# Altium footprint library Switch.PcbLib: 11 footprints
Each footprint in its own frame and in the unit in brackets; x right, y up, seen from the top. Pads: shape width x height; smd on the part's side, far side on the other; paste and mask are expansions set on the pad; w line width, h text height; cw(c..) or ccw(c..) is an arc to the next point about the centre after c.
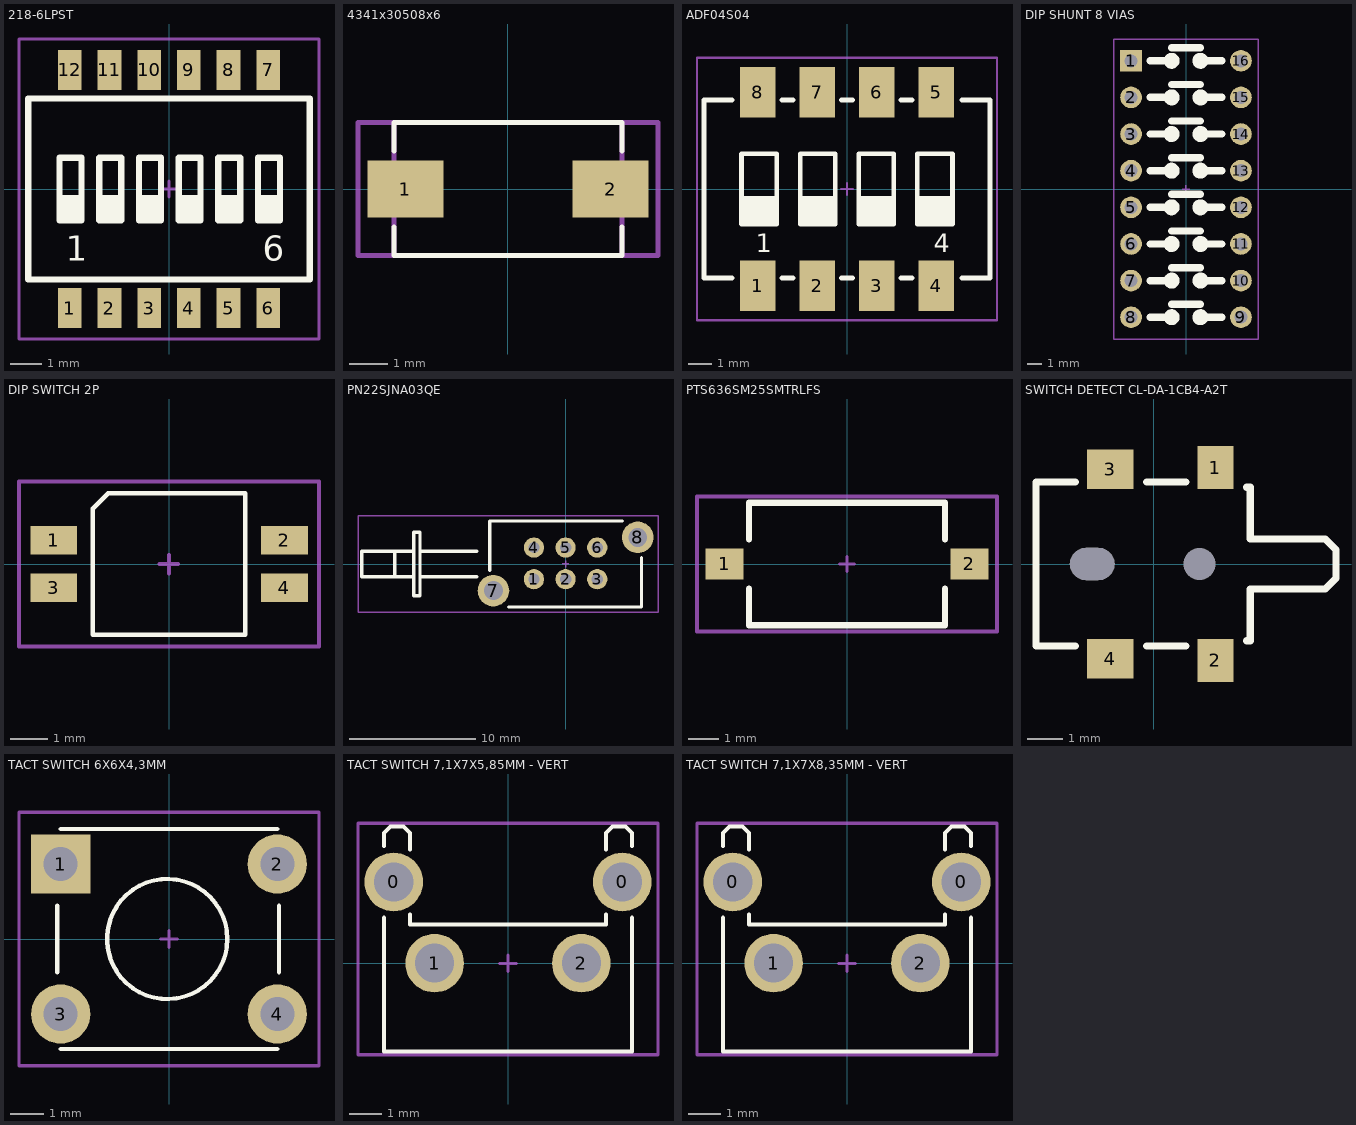
[diagram p0: the footprints below, top view; thin cyan lines are the x and y axes]

## 218-6LPST [mm]
pads (12):
  rect 0.76x1.27 smd: 1(-3.175,-3.81) 2(-1.905,-3.81) 3(-0.635,-3.81) 4(0.635,-3.81) 5(1.905,-3.81) 6(3.175,-3.81) 7(3.175,3.81) 8(1.905,3.81) 9(0.635,3.81) 10(-0.635,3.81) 11(-1.905,3.81) 12(-3.175,3.81)
Top Overlay:
  rectangle: -3.5,-1 -2.8,-0.2
  rectangle: -2.23,-1 -1.53,-0.2
  rectangle: -0.96,-1 -0.26,-0.2
  rectangle: 0.31,-1 1.01,-0.2
  rectangle: 1.58,-1 2.28,-0.2
  rectangle: 2.85,-1 3.55,-0.2
  lines w0.2: -4.5,-2.9 4.5,-2.9 4.5,2.9 -4.5,2.9 -4.5,-2.9 ; -3.5,-1 -2.8,-1 -2.8,1 -3.5,1 -3.5,-1 ; -2.23,-1 -2.23,1 -1.53,1 -1.53,-1 -2.23,-1 ; -0.96,-1 -0.96,1 -0.26,1 -0.26,-1 -0.96,-1 ; 0.31,-1 0.31,1 1.01,1 1.01,-1 0.31,-1 ; 1.58,-1 1.58,1 2.28,1 2.28,-1 1.58,-1 ; 2.85,-1 2.85,1 3.55,1 3.55,-1 2.85,-1
  text "1" at -3.3,-2.3 h0.8
  text "6" at 3,-2.3 h0.8
Mechanical 15:
  lines w0.1: -0.25,0 0.25,0 ; 0,-0.25 0,0.25 ; -4.8,-4.8 4.8,-4.8 4.8,4.8 -4.8,4.8 -4.8,-4.8
3D body "218-6polesLP.STEP": height 2.62, standoff 0, extent -4.395,-4.22 4.395,4.22

## 4341x30508x6 [mm]
height 1.75
pads (2):
  rect 2x1.5 smd: 1(-2.7,0) 2(2.7,0)
Top Overlay:
  lines w0.127: -3,-1 -3,-1.75 ; 3,1 3,1.75 ; -3,-1.75 3,-1.75 3,-1 ; -3,-1.75 -3,-1.75 ; -3,1 -3,1.75 3,1.75 ; -3,1 -3,1 ; 3,-1 3,-1 ; 3,1.75 3,1.75
Mechanical 13:
  lines w0.127: -3,-1.75 3,-1.75 3,1.75 -3,1.75 -3,-1.75
Mechanical 15:
  lines w0.127: -3.95,-1.75 3.95,-1.75 3.95,1.75 -3.95,1.75 -3.95,-1.75
3D body "4341x30508x6.stp": height 5, standoff 0, extent -3.599,-1.75 3.6,1.75

## ADF04S04 [mm]
pads (8):
  rect 1.52x2.16 smd: 1(-3.81,-4.13) 2(-1.27,-4.13) 3(1.27,-4.13) 4(3.81,-4.13) 5(3.81,4.13) 6(1.27,4.13) 7(-1.27,4.13) 8(-3.81,4.13)
Top Overlay:
  rectangle: -4.5,-1.5 -3,-0.3
  rectangle: -2,-1.5 -0.5,-0.3
  rectangle: 3,-1.5 4.5,-0.3
  rectangle: 0.5,-1.5 2,-0.3
  lines w0.2: -4.9,-3.8 -6.1,-3.8 -6.1,3.8 -4.9,3.8 ; -2.79,-3.8 -2.29,-3.8 ; -2.79,3.8 -2.29,3.8 ; -0.25,-3.8 0.25,-3.8 ; -0.25,3.8 0.25,3.8 ; 2.29,-3.8 2.79,-3.8 ; 2.29,3.8 2.79,3.8 ; 4.9,-3.8 6.1,-3.8 6.1,3.8 4.9,3.8 ; -4.5,-1.5 -3,-1.5 -3,1.5 -4.5,1.5 -4.5,-1.5 ; -2,-1.5 -2,1.5 -0.5,1.5 -0.5,-1.5 -2,-1.5 ; 0.5,-1.5 0.5,1.5 2,1.5 2,-1.5 0.5,-1.5 ; 3,-1.5 4.5,-1.5 4.5,1.5 3,1.5 3,-1.5
  text "4" at 3.7,-2.7 h0.8
  text "1" at -3.9,-2.7 h0.8
Mechanical 15:
  lines w0.1: -0.25,0 0.25,0 ; 0,-0.25 0,0.25 ; -6.4,-5.6 6.4,-5.6 6.4,5.6 -6.4,5.6 -6.4,-5.6
3D body "ADF04S04.STEP": height 4.42, standoff -0.02, extent -6.07,-4.659 6.07,4.659

## DIP SHUNT 8 VIAS [mm] "DIP SHUNT 8 VIAS"
pads (16):
  rect 1.5x1.5 hole 0.9: 1(-3.81,8.89)
  round 1.5 hole 0.9: 2(-3.81,6.35) 3(-3.81,3.81) 4(-3.81,1.27) 5(-3.81,-1.27) 6(-3.81,-3.81) 7(-3.81,-6.35) 8(-3.81,-8.89) 9(3.81,-8.89) 10(3.81,-6.35) 11(3.81,-3.81) 12(3.81,-1.27) 13(3.81,1.27) 14(3.81,3.81) 15(3.81,6.35) 16(3.81,8.89)
Top Overlay:
  circle w0.508: c1,-8.89 r0.3
  circle w0.508: c-1,-8.89 r0.3
  circle w0.508: c1,-6.35 r0.3
  circle w0.508: c-1,-6.35 r0.3
  circle w0.508: c1,-3.81 r0.3
  circle w0.508: c-1,-3.81 r0.3
  circle w0.508: c1,-1.27 r0.3
  circle w0.508: c-1,-1.27 r0.3
  circle w0.508: c1,1.27 r0.3
  circle w0.508: c-1,1.27 r0.3
  circle w0.508: c1,3.81 r0.3
  circle w0.508: c-1,3.81 r0.3
  circle w0.508: c1,6.35 r0.3
  circle w0.508: c-1,6.35 r0.3
  circle w0.508: c1,8.89 r0.3
  circle w0.508: c-1,8.89 r0.3
  lines w0.508: -2.5,-8.89 -1,-8.89 ; -2.5,-6.35 -1,-6.35 ; -2.5,-3.81 -1,-3.81 ; -2.5,-1.27 -1,-1.27 ; -2.5,1.27 -1,1.27 ; -2.5,3.81 -1,3.81 ; -2.5,6.35 -1,6.35 ; -2.5,8.89 -1,8.89 ; -1,-7.99 1,-7.99 ; -1,-5.45 1,-5.45 ; -1,-2.91 1,-2.91 ; -1,-0.37 1,-0.37 ; -1,2.17 1,2.17 ; -1,4.71 1,4.71 ; -1,7.25 1,7.25 ; -1,9.79 1,9.79 ; 1,-8.89 2.5,-8.89 ; 1,-6.35 2.5,-6.35 ; 1,-3.81 2.5,-3.81 ; 1,-1.27 2.5,-1.27 ; 1,1.27 2.5,1.27 ; 1,3.81 2.5,3.81 ; 1,6.35 2.5,6.35 ; 1,8.89 2.5,8.89
Mechanical 15:
  lines w0.1: -0.25,0 0.25,0 ; 0,-0.25 0,0.25 ; -5,-10.4 -5,10.4 5,10.4 5,-10.4 -5,-10.4
3D body "DIP SHUNT 8 VIAS.STEP": height 2.2, standoff -3.6, extent -3.935,-10.16 3.935,10.16

## DIP SWITCH 2P [mm]
height 1.45
pads (4):
  rect 1.25x0.76 smd: 1(-3.075,0.635) 2(3.075,0.635) 3(-3.075,-0.635) 4(3.075,-0.635)
Top Overlay:
  lines w0.127: -2.032,-1.885 2.032,-1.885 2.032,1.885 -1.625,1.885 -2.032,1.478 -2.032,-1.885
Mechanical 15:
  lines w0.1: -0.25,0 0.25,0 ; 0,-0.25 0,0.25 ; -4,-2.2 -4,2.2 4,2.2 4,-2.2 -4,-2.2
3D body "DIP SWITCH 2P.step": height 1.5, standoff -0.05, extent -3.35,-1.885 3.35,1.885

## PN22SJNA03QE [mm]
height 8
pads (8):
  round 1.6 hole 0.9: 1(-2.5,-1.2) 2(0,-1.2) 3(2.5,-1.2) 4(-2.5,1.3) 5(0,1.3) 6(2.5,1.3)
  round 2.5 hole 1.5: 7(-5.7,-2.1) 8(5.7,2.1)
Top Overlay:
  lines w0.254: -13.5,-1 -13.5,1 ; -12.065,-1 -16.1,-1 -16.1,1 -12.065,1 ; -11.5,-1 -7,-1 ; -11.2,1 -11.5,1 -7,1 ; -6,-0.5 -6,3.4 4.5,3.4 ; -4.5,-3.4 6,-3.4 ; 6,-3.396 6,0.504 ; -12,-2.5 -11.5,-2.5 -11.5,2.5 -12,2.5 -12,-2.5
Mechanical 15:
  lines w0.1: -0.25,0 0.25,0 ; 0,-0.25 0,0.25 ; -16.4,-3.8 7.3,-3.8 7.3,3.8 -16.4,3.8 -16.4,-3.8
3D body "PN22SJNA03QE.STEP": height 2.34, standoff -8.76, extent -16.004,-3.353 5.996,3.447

## PTS636SM25SMTRLFS [mm]
height 2
pads (2):
  rect 1.25x1 smd: 1(-4,0) 2(4,0)
Top Overlay:
  lines w0.2: -3.2,-0.8 -3.2,-2 3.2,-2 3.2,-0.8 ; -3.2,0.8 -3.2,2 3.2,2 3.2,0.8
Mechanical 15:
  lines w0.1: -0.25,0 0.25,0 ; 0,-0.25 0,0.25
  lines w0.127: -4.9,-2.2 -4.9,2.2 4.9,2.2 4.9,-2.2 -4.9,-2.2
3D body "PTS636SM25SMTRLFS.STEP": height 2.55, standoff 0, extent -4,-1.85 4,1.85

## SWITCH DETECT CL-DA-1CB4-A2T [mm]
pads (6):
  rect 0x0 hole 0.9 slot 1.25 at 0 deg unplated: 0(-1.725,0)
  rect 0x0 hole 0.9 unplated: 0(1.275,0)
  rect 1x1.2 smd: 1(1.725,2.7) 2(1.725,-2.7)
  rect 1.3x1.1 smd: 3(-1.225,2.65) 4(-1.225,-2.65)
Top Overlay:
  lines w0.2: -2.2,-2.3 -3.3,-2.3 -3.3,0 -3.3,2.3 -2.2,2.3 ; -0.2,-2.3 0.9,-2.3 ; -0.2,2.3 0.9,2.3 ; 2.6,-2.15 2.7,-2.15 2.7,-0.7 4.8,-0.7 5.1,-0.4 5.1,0 5.1,0.4 4.8,0.7 2.7,0.7 2.7,2.15 2.6,2.15
3D body "CL-DA-1CB4-A2T.STEP": height 2.01, standoff -0.59, extent -3.175,-2.8 5.025,2.8

## TACT SWITCH 6X6X4,3MM [mil]
height 169.29
pads (4):
  rect 70x70 hole 40: 1(-127.95,88.58)
  round 70 hole 40: 2(127.95,88.58) 3(-127.95,-88.58) 4(127.95,-88.58)
Top Overlay:
  circle w5: c-2.08,0 r70.98
  lines w5: -131.96,-39.37 -131.96,39.37 ; -127.95,-129.92 127.95,-129.92 ; -127.95,129.92 127.95,129.92 ; 129.92,-39.37 129.92,39.37
Mechanical 15:
  lines w3.94: -9.79,0 9.89,0 ; 0.05,-9.84 0.05,9.84 ; -177.17,-149.61 -177.17,149.61 177.17,149.61 177.17,-149.61 -177.17,-149.61
3D body "43ROA1885009.stp": height 169.29, standoff -137.8, extent -162.74,-127.95 162.75,127.96

## TACT SWITCH 7,1X7X5,85MM - VERT [mm]
height 4.3
pads (4):
  round 1.8 hole 1.2: 0(-3.505,2.5) 0(3.505,2.5) 1(-2.25,0.01) 2(2.25,0.01)
Top Overlay:
  lines w0.127: -3.8,1.4 -3.8,-2.7 3.8,-2.7 3.8,1.4 ; -3.8,3.6 -3.8,3.9 -3.8,4 -3.6,4.2 -3.2,4.2 -3,4 -3,3.5 ; -3,1.5 -3,1.2 3,1.2 3,1.5 ; 3,3.5 3,3.9 3,4 3.2,4.2 3.6,4.2 3.8,4 3.8,3.6
Mechanical 15:
  lines w0.1: -0.25,0 0.25,0 ; 0,-0.25 0,0.25 ; -4.6,-2.8 -4.6,4.3 4.6,4.3 4.6,-2.8 -4.6,-2.8
3D body "User Library-Tact Sw RA 5_85mm.STEP": height 6.8, standoff -3.72, extent -4.153,-5.79 4.254,4.067

## TACT SWITCH 7,1X7X8,35MM - VERT [mm]
height 4.3
pads (4):
  round 1.8 hole 1.2: 0(-3.505,2.5) 0(3.505,2.5) 1(-2.25,0.01) 2(2.25,0.01)
Top Overlay:
  lines w0.127: -3.8,1.4 -3.8,-2.7 3.8,-2.7 3.8,1.4 ; -3.8,3.6 -3.8,3.9 -3.8,4 -3.6,4.2 -3.2,4.2 -3,4 -3,3.5 ; -3,1.5 -3,1.2 3,1.2 3,1.5 ; 3,3.5 3,3.9 3,4 3.2,4.2 3.6,4.2 3.8,4 3.8,3.6
Mechanical 15:
  lines w0.1: -0.25,0 0.25,0 ; 0,-0.25 0,0.25 ; -4.6,-2.8 -4.6,4.3 4.6,4.3 4.6,-2.8 -4.6,-2.8
3D body "User Library-Tact Sw RA 8_35mm 1-1825027-1.STEP": height 6.8, standoff -3.72, extent -4.154,-8.29 4.254,4.067